# Altium schematic symbol library CurrentSense.SchLib: 3 symbols
Pins are listed as number, name and electrical type; pins without a type are passive.

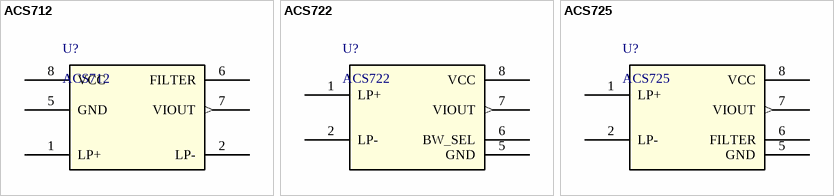
[diagram p0: symbols ACS712 to ACS725]

## ACS712
designator U?
Fully Integrated, Hall Effect-Based Linear Current Sensor IC with 2.1 kVRMS Isolation and a Low-Resistance Current Conductor
footprint ACS712
pins: 1 LP+ (power), 2 LP- (power), 5 GND (power), 6 FILTER, 7 VIOUT (out), 8 VCC (power)

## ACS722
designator U?
footprint ACS722 (Footprint not found)
pins: 1 LP+ (power), 2 LP- (power), 5 GND (power), 6 BW_SEL, 7 VIOUT (out), 8 VCC (power)

## ACS725
designator U?
footprint ACS725 (Footprint not found)
pins: 1 LP+ (power), 2 LP- (power), 5 GND (power), 6 FILTER, 7 VIOUT (out), 8 VCC (power)